# Altium schematic symbol library ATMega328P.SchLib: 1 symbol
Pins are listed as number, name and electrical type; pins without a type are passive.

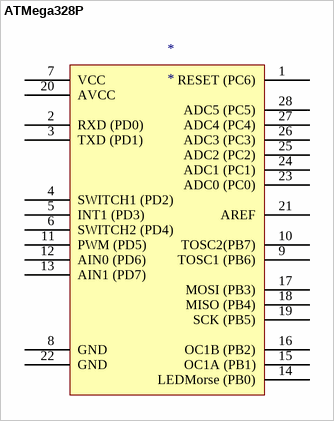
[diagram p0: symbol ATMega328P]

## ATMega328P
designator *
footprint ATMega328P
pins: 1 RESET (PC6), 2 RXD (PD0), 3 TXD (PD1), 4 SWITCH1 (PD2), 5 INT1 (PD3), 6 SWITCH2 (PD4), 7 VCC, 8 GND, 9 TOSC1 (PB6), 10 TOSC2(PB7), 11 PWM (PD5), 12 AIN0 (PD6), 13 AIN1 (PD7), 14 LEDMorse (PB0), 15 OC1A (PB1), 16 OC1B (PB2), 17 MOSI (PB3), 18 MISO (PB4), 19 SCK (PB5), 20 AVCC, 21 AREF, 22 GND, 23 ADC0 (PC0), 24 ADC1 (PC1), 25 ADC2 (PC2), 26 ADC3 (PC3), 27 ADC4 (PC4), 28 ADC5 (PC5)